# EAGLE library part 50281-018 (library con-aces-50281-series)
ACES CONNECTORS 50281 SERIES ACES Connecors 50281
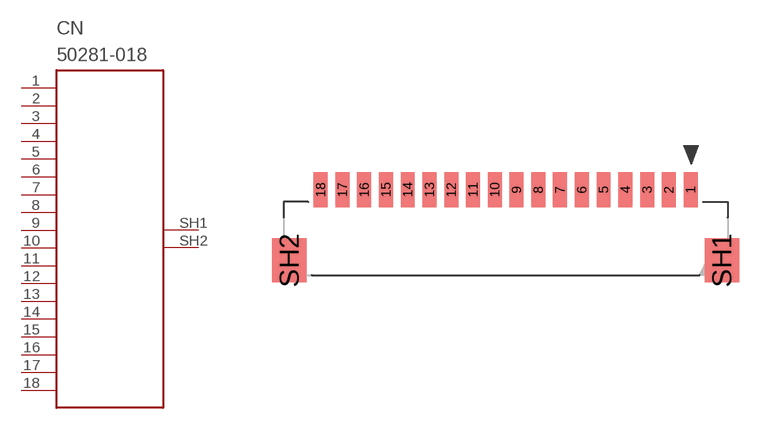
[diagram p12: symbol with the pads of 50281-018; footprint 50281-018]

Designator prefix CN

## 50281-018  [50281-018]
1  1
2  2
3  3
4  4
5  5
6  6
7  7
8  8
9  9
10  10
11  11
12  12
13  13
14  14
15  15
16  16
17  17
18  18
SH1  SH1
SH2  SH2

## Footprint 50281-018 (pad centres in mm)
smd 0.8 x 2: 1 10.625,1.9; 2 9.375,1.9; 3 8.125,1.9; 4 6.875,1.9; 5 5.625,1.9; 6 4.375,1.9; 7 3.125,1.9; 8 1.875,1.9; 9 0.625,1.9; 10 -0.625,1.9; 11 -1.875,1.9; 12 -3.125,1.9; 13 -4.375,1.9; 14 -5.625,1.9; 15 -6.875,1.9; 16 -8.125,1.9; 17 -9.375,1.9; 18 -10.625,1.9
smd 2 x 2.5: SH1 12.425,-2.15; SH2 -12.425,-2.15